# EAGLE library part AD538 (library ic)
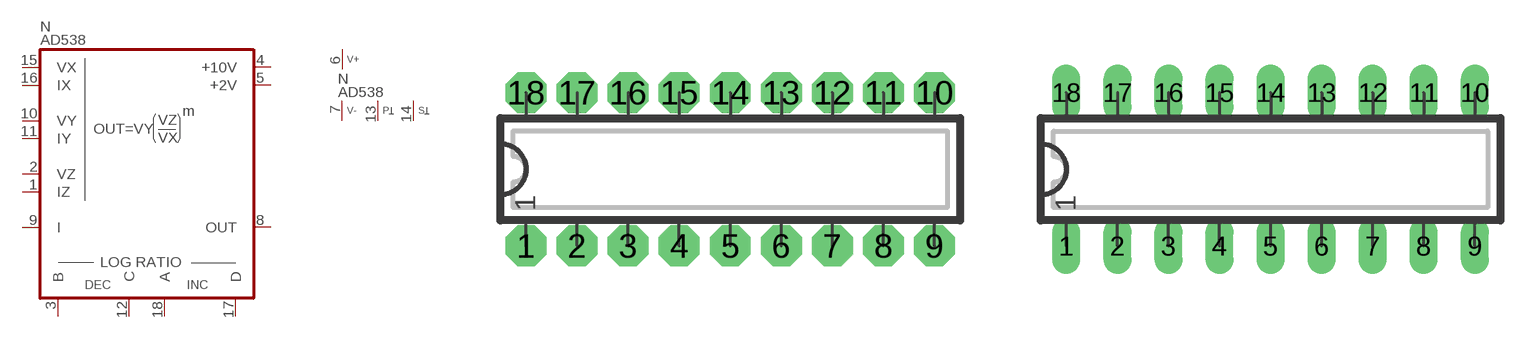
[diagram p40: symbol with the pads of DIP18N; footprints DIP18N, DIP18L]

Designator prefix N; gates  =AD538 P=V+-2GND

## AD538N  [DIP18N]
1   :IZ  in
2   :VZ  in
3   :B  pas
4   :+10V  out
5   :+2V  out
6  P:V+  pwr
7  P:V-  pwr
8   :OUT  out
9   :I  in
10   :VY  in
11   :IY  in
12   :C  pas
13  P:PGND  pwr
14  P:SGND  pwr
15   :VX  in
16   :IX  in
17   :D  pas
18   :A  pas

## AD538  [DIP18L]
Pads as for DIP18N

## AD538L  [DIP18L]
Pads as for DIP18N

## AD538R  [DIP18R]
Pads as for DIP18N

## Footprint DIP18N (pad centres in mm)
DIP-18 Standard IC package, 18 pins
drill 0.813 pad 2.032 octagon: 1 -10.16,-3.81; 2 -7.62,-3.81; 3 -5.08,-3.81; 4 -2.54,-3.81; 5 0,-3.81; 6 2.54,-3.81; 7 5.08,-3.81; 8 7.62,-3.81; 9 10.16,-3.81; 10 10.16,3.81; 11 7.62,3.81; 12 5.08,3.81; 13 2.54,3.81; 14 0,3.81; 15 -2.54,3.81; 16 -5.08,3.81; 17 -7.62,3.81; 18 -10.16,3.81

## Footprint DIP18L (pad centres in mm)
DIP-18, long pads Standard IC package, 18 pins
drill 0.813 pad 1.397 long: 1 -10.16,-3.81; 2 -7.62,-3.81; 3 -5.08,-3.81; 4 -2.54,-3.81; 5 0,-3.81; 6 2.54,-3.81; 7 5.08,-3.81; 8 7.62,-3.81; 9 10.16,-3.81; 10 10.16,3.81; 11 7.62,3.81; 12 5.08,3.81; 13 2.54,3.81; 14 0,3.81; 15 -2.54,3.81; 16 -5.08,3.81; 17 -7.62,3.81; 18 -10.16,3.81

## Footprint DIP18R (pad centres in mm)
DIP-18, reduced pads Standard IC package, 18 pins
drill 0.813 pad 1.397 square: 1 -10.16,-3.81; 2 -7.62,-3.81; 3 -5.08,-3.81; 4 -2.54,-3.81; 5 0,-3.81; 6 2.54,-3.81; 7 5.08,-3.81; 8 7.62,-3.81; 9 10.16,-3.81; 10 10.16,3.81; 11 7.62,3.81; 12 5.08,3.81; 13 2.54,3.81; 14 0,3.81; 15 -2.54,3.81; 16 -5.08,3.81; 17 -7.62,3.81; 18 -10.16,3.81